# Altium footprint library Connector-Header.PcbLib: 107 footprints (part 5 of 7)
Each footprint in its own frame and in the unit in brackets; x right, y up, seen from the top. Pads: shape width x height; smd on the part's side, far side on the other; paste and mask are expansions set on the pad; w line width, h text height; cw(c..) or ccw(c..) is an arc to the next point about the centre after c.
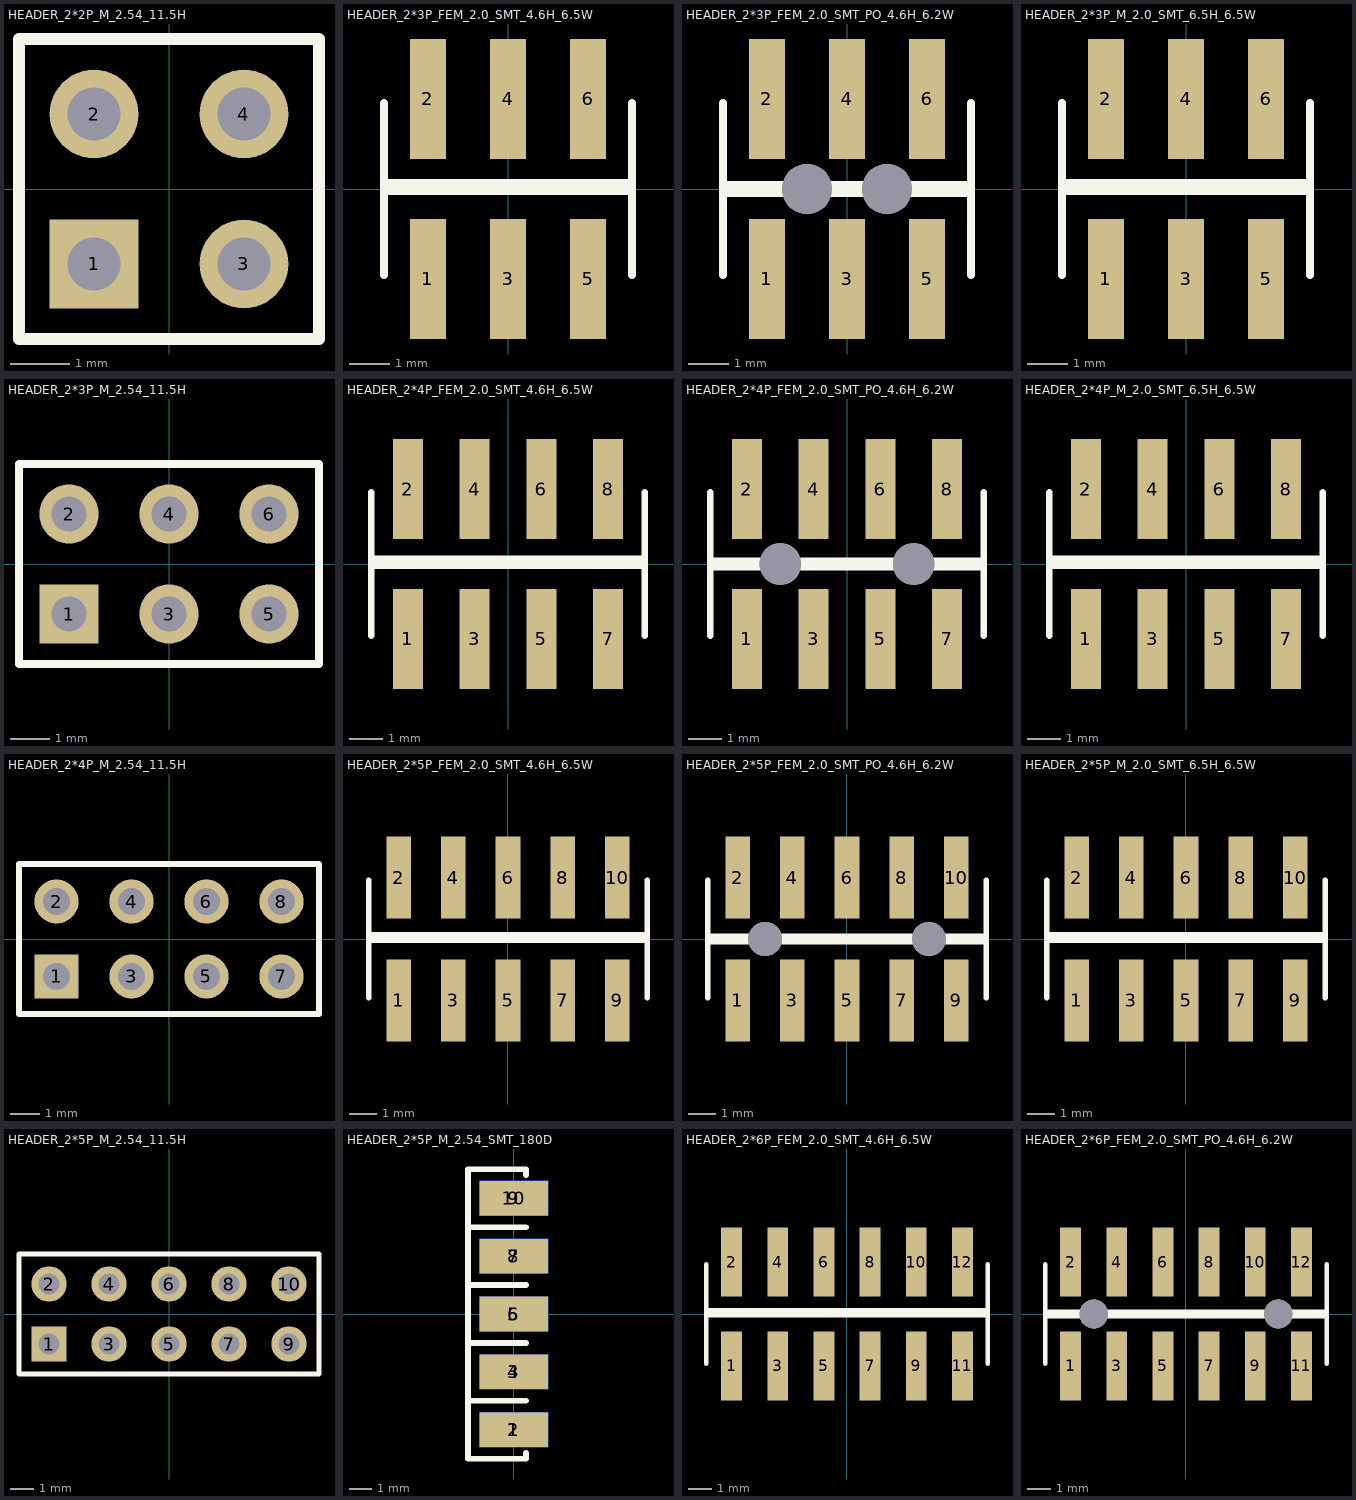
[diagram p4: the footprints below, top view; thin cyan lines are the x and y axes]

## HEADER_2*2P_M_2.54_11.5H [mm] "Connector; Header; 2x2 Position"
pads (4):
  rect 1.5x1.5 hole 0.9: 1(-1.27,-1.27)
  round 1.5 hole 0.9: 2(-1.27,1.27) 3(1.27,-1.27) 4(1.27,1.27)
Top Overlay:
  lines w0.2: -2.54,-2.54 -2.54,2.54 2.54,2.54 2.54,-2.54 -2.54,-2.54

## HEADER_2*3P_FEM_2.0_SMT_4.6H_6.5W [mm]
pads (6):
  rect 0.9x3 smd: 1(-2,-2.25) 2(-2,2.25) 3(0,-2.25) 4(0,2.25) 5(2,-2.25) 6(2,2.25)
Top Overlay:
  lines w0.203: -3.1,-2.15 -3.1,2.15 ; -3.1,-0.05 3,-0.05 ; -3.1,0.15 3,0.15 ; 3.1,-2.15 3.1,2.15

## HEADER_2*3P_FEM_2.0_SMT_PO_4.6H_6.2W [mm]
pads (8):
  rect 0.9x3 smd: 1(-2,-2.25) 2(-2,2.25) 3(0,-2.25) 4(0,2.25) 5(2,-2.25) 6(2,2.25)
  round 1.25 hole 1.25: ""(-1,0) ""(1,0)
Top Overlay:
  lines w0.203: -3.1,-2.15 -3.1,2.15 ; -3.1,-0.1 3,-0.1 ; -3.1,0.1 3,0.1 ; 3.1,-2.15 3.1,2.15

## HEADER_2*3P_M_2.0_SMT_6.5H_6.5W [mm]
pads (6):
  rect 0.9x3 smd: 1(-2,-2.25) 2(-2,2.25) 3(0,-2.25) 4(0,2.25) 5(2,-2.25) 6(2,2.25)
Top Overlay:
  lines w0.203: -3.1,-2.15 -3.1,2.15 ; -3.1,-0.05 3,-0.05 ; -3.1,0.15 3,0.15 ; 3.1,-2.15 3.1,2.15

## HEADER_2*3P_M_2.54_11.5H [mm] "Connector; Header; 3x2 Position"
pads (6):
  rect 1.5x1.5 hole 0.9: 1(-2.54,-1.27)
  round 1.5 hole 0.9: 2(-2.54,1.27) 3(0,-1.27) 4(0,1.27) 5(2.54,-1.27) 6(2.54,1.27)
Top Overlay:
  lines w0.2: -1.058,-2.54 3.81,-2.54 ; 3.81,-2.54 3.81,2.54 -3.81,2.54 -3.81,-2.54 3.81,-2.54

## HEADER_2*4P_FEM_2.0_SMT_4.6H_6.5W [mm]
pads (8):
  rect 0.9x3 smd: 1(-3,-2.25) 2(-3,2.25) 3(-1,-2.25) 4(-1,2.25) 5(1,-2.25) 6(1,2.25) 7(3,-2.25) 8(3,2.25)
Top Overlay:
  lines w0.203: -4.1,-2.15 -4.1,2.15 ; -4.1,-0.05 4.1,-0.05 ; -4.1,0.15 4.1,0.15 ; 4.1,-2.15 4.1,2.15

## HEADER_2*4P_FEM_2.0_SMT_PO_4.6H_6.2W [mm]
pads (10):
  rect 0.9x3 smd: 1(-3,-2.25) 2(-3,2.25) 3(-1,-2.25) 4(-1,2.25) 5(1,-2.25) 6(1,2.25) 7(3,-2.25) 8(3,2.25)
  round 1.25 hole 1.25: ""(-2,0) ""(2,0)
Top Overlay:
  lines w0.203: -4.1,-2.15 -4.1,2.15 ; -4.1,-0.1 4.1,-0.1 ; -4.1,0.1 4.1,0.1 ; 4.1,-2.15 4.1,2.15

## HEADER_2*4P_M_2.0_SMT_6.5H_6.5W [mm]
pads (8):
  rect 0.9x3 smd: 1(-3,-2.25) 2(-3,2.25) 3(-1,-2.25) 4(-1,2.25) 5(1,-2.25) 6(1,2.25) 7(3,-2.25) 8(3,2.25)
Top Overlay:
  lines w0.203: -4.1,-2.15 -4.1,2.15 ; -4.1,-0.05 4.1,-0.05 ; -4.1,0.15 4.1,0.15 ; 4.1,-2.15 4.1,2.15

## HEADER_2*4P_M_2.54_11.5H [mm] "Connector; Header; 4x2 Position"
pads (8):
  rect 1.5x1.5 hole 0.9: 1(-3.81,-1.27)
  round 1.5 hole 0.9: 2(-3.81,1.27) 3(-1.27,-1.27) 4(-1.27,1.27) 5(1.27,-1.27) 6(1.27,1.27) 7(3.81,-1.27) 8(3.81,1.27)
Top Overlay:
  lines w0.2: -5.08,-2.54 5.08,-2.54 5.08,2.54 -5.08,2.54 -5.08,-2.54

## HEADER_2*5P_FEM_2.0_SMT_4.6H_6.5W [mm]
pads (10):
  rect 0.9x3 smd: 1(-4,-2.25) 2(-4,2.25) 3(-2,-2.25) 4(-2,2.25) 5(0,-2.25) 6(0,2.25) 7(2,-2.25) 8(2,2.25) 9(4,-2.25) 10(4,2.25)
Top Overlay:
  lines w0.203: -5.1,-2.15 -5.1,2.15 ; -5.1,-0.05 5.1,-0.05 ; -5.1,0.15 5.1,0.15 ; 5.1,-2.15 5.1,2.15

## HEADER_2*5P_FEM_2.0_SMT_PO_4.6H_6.2W [mm]
pads (12):
  rect 0.9x3 smd: 1(-4,-2.25) 2(-4,2.25) 3(-2,-2.25) 4(-2,2.25) 5(0,-2.25) 6(0,2.25) 7(2,-2.25) 8(2,2.25) 9(4,-2.25) 10(4,2.25)
  round 1.25 hole 1.25: ""(-3,0) ""(3,0)
Top Overlay:
  lines w0.203: -5.1,-2.15 -5.1,2.15 ; -5.1,-0.1 5.1,-0.1 ; -5.1,0.1 5.1,0.1 ; 5.1,-2.15 5.1,2.15

## HEADER_2*5P_M_2.0_SMT_6.5H_6.5W [mm]
pads (10):
  rect 0.9x3 smd: 1(-4,-2.25) 2(-4,2.25) 3(-2,-2.25) 4(-2,2.25) 5(0,-2.25) 6(0,2.25) 7(2,-2.25) 8(2,2.25) 9(4,-2.25) 10(4,2.25)
Top Overlay:
  lines w0.203: -5.1,-2.15 -5.1,2.15 ; -5.1,-0.05 5.1,-0.05 ; -5.1,0.15 5.1,0.15 ; 5.1,-2.15 5.1,2.15

## HEADER_2*5P_M_2.54_11.5H [mm] "Connector; Header; 5x2 Position"
pads (10):
  rect 1.5x1.5 hole 0.9: 1(-5.08,-1.27)
  round 1.5 hole 0.9: 2(-5.08,1.27) 3(-2.54,-1.27) 4(-2.54,1.27) 5(0,-1.27) 6(0,1.27) 7(2.54,-1.27) 8(2.54,1.27) 9(5.08,-1.27) 10(5.08,1.27)
Top Overlay:
  lines w0.2: -6.35,-2.54 -6.35,2.54 6.35,2.54 6.35,-2.54 -6.35,-2.54
3D body "User Library-Pin header 2x5 pinos reto pitch 2_54.step": height 9.5, standoff -3.2, extent -6.35,-2.54 6.35,2.54

## HEADER_2*5P_M_2.54_SMT_180D [mm]
pads (10):
  rect 3x1.52 smd: 1(0,-5.08) 3(0,-2.54) 5(0,0) 7(0,2.54) 9(0,5.08)
  rect 3x1.52 smd far side: 2(0,-5.08) 4(0,-2.54) 6(0,0) 8(0,2.54) 10(0,5.08)
Top Overlay:
  lines w0.254: -2.01,-3.81 0.53,-3.81 ; -2.01,-1.27 0.53,-1.27 ; -2.01,1.27 0.53,1.27 ; -2.01,3.81 0.53,3.81 ; 0.53,-6.096 0.53,-6.35 -2.01,-6.35 -2.01,6.35 0.53,6.35 0.53,6.096
Bottom Overlay:
  lines w0.254: -2.01,-3.81 0.53,-3.81 ; -2.01,-1.27 0.53,-1.27 ; -2.01,1.27 0.53,1.27 ; -2.01,3.81 0.53,3.81 ; 0.53,-6.096 0.53,-6.35 -2.01,-6.35 -2.01,6.35 0.53,6.35 0.53,6.096
3D body "User Library-Pin header 2x5 pinos reto pitch 2_54.step": height 1.77, standoff -3.31, extent -1.27,-6.35 11.426,6.35

## HEADER_2*6P_FEM_2.0_SMT_4.6H_6.5W [mm]
pads (12):
  rect 0.9x3 smd: 1(-5,-2.25) 2(-5,2.25) 3(-3,-2.25) 4(-3,2.25) 5(-1,-2.25) 6(-1,2.25) 7(1,-2.25) 8(1,2.25) 9(3,-2.25) 10(3,2.25) 11(5,-2.25) 12(5,2.25)
Top Overlay:
  lines w0.203: -6.1,-2.15 -6.1,2.15 ; -6.1,-0.05 6.1,-0.05 ; -6.1,0.15 6.1,0.15 ; 6.1,-2.15 6.1,2.15

## HEADER_2*6P_FEM_2.0_SMT_PO_4.6H_6.2W [mm]
pads (14):
  rect 0.9x3 smd: 1(-5,-2.25) 2(-5,2.25) 3(-3,-2.25) 4(-3,2.25) 5(-1,-2.25) 6(-1,2.25) 7(1,-2.25) 8(1,2.25) 9(3,-2.25) 10(3,2.25) 11(5,-2.25) 12(5,2.25)
  round 1.25 hole 1.25: ""(-4,0) ""(4,0)
Top Overlay:
  lines w0.203: -6.1,-2.15 -6.1,2.15 ; -6.1,-0.1 6.1,-0.1 ; -6.1,0.1 6.1,0.1 ; 6.1,-2.15 6.1,2.15